# EAGLE library part INA181 (library pimoroni-ics)
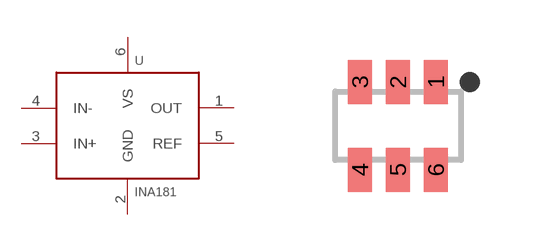
[diagram p58: symbol with the pads of SOT-23-6; footprint SOT-23-6]

Designator prefix U

## INA181  [SOT-23-6]
1  OUT
2  GND
3  IN+
4  IN-
5  REF
6  VS

## Footprint SOT-23-6 (pad centres in mm)
smd 0.6 x 1.1: 1 0.95,1.1; 2 0,1.1; 3 -0.95,1.1; 4 -0.95,-1.1; 5 0,-1.1; 6 0.95,-1.1